# EAGLE library part L293D (library motor_drivers)
L293D, Motor Driver, 4.5 36 V, 16-Pin Power PDIP Source: Datasheet <http://www.st.com/web/en/resource/technical/document/datasheet/CD00000059.pdf>
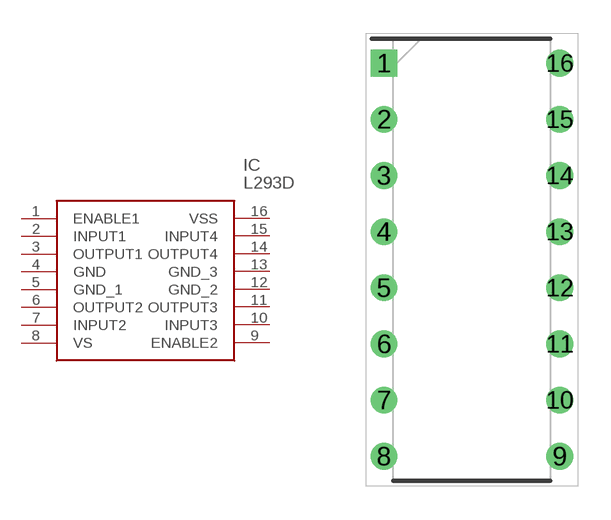
[diagram p1: symbol with the pads of DIP795W50P254L2000H510Q16N; footprint DIP795W50P254L2000H510Q16N]

Designator prefix IC

## L293D (ALLIED_NUMBER: 70014167; ALLIED_PRICE-STOCK: http://www.alliedelec.com/stmicroelectronics-l293d/70014167/; DESCRIPTION: L293D, Motor Driver, 4.5 36 V, 16-Pin Power PDIP; HEIGHT: 5.1mm; MANUFACTURER_NAME: STMicroelectronics; MANUFACTURER_PART_NUMBER: L293D; MOUSER_PART_NUMBER: 511-L293D; MOUSER_PRICE-STOCK: https://www.mouser.com/Search/Refine.aspx?Keyword=511-L293D; RS_PART_NUMBER: 7140622P; RS_PRICE-STOCK: http://uk.rs-online.com/web/p/products/7140622P)  [DIP795W50P254L2000H510Q16N]
1  ENABLE1  out
2  INPUT1  in
3  OUTPUT1  out
4  GND  pwr
5  GND_1  pwr
6  OUTPUT2  out
7  INPUT2  in
8  VS  pwr
9  ENABLE2  out
10  INPUT3  in
11  OUTPUT3  out
12  GND_2  pwr
13  GND_3  pwr
14  OUTPUT4  out
15  INPUT4  in
16  VSS  pwr

## Footprint DIP795W50P254L2000H510Q16N (pad centres in mm)
Powerdip 16
drill 0.7 pad 1.1 square: 1 -3.975,8.89
drill 0.7 pad 1.1: 2 -3.975,6.35; 3 -3.975,3.81; 4 -3.975,1.27; 5 -3.975,-1.27; 6 -3.975,-3.81; 7 -3.975,-6.35; 8 -3.975,-8.89; 9 3.975,-8.89; 10 3.975,-6.35; 11 3.975,-3.81; 12 3.975,-1.27; 13 3.975,1.27; 14 3.975,3.81; 15 3.975,6.35; 16 3.975,8.89